# EAGLE library part 8_RES_BUS_1608 (library resistorArrayBus)
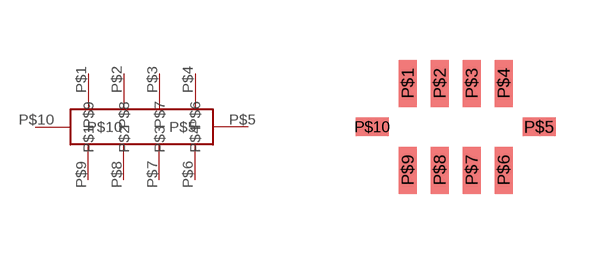
[diagram p0: symbol with the pads of 8_RES_BUS_1608; footprint 8_RES_BUS_1608]

Designator prefix -

## 8_RES_BUS_1608  [8_RES_BUS_1608]
P$1  P$1
P$2  P$2
P$3  P$3
P$4  P$4
P$5  P$5
P$6  P$6
P$7  P$7
P$8  P$8
P$9  P$9
P$10  P$10

## Footprint 8_RES_BUS_1608 (pad centres in mm)
smd 0.45 x 1.175: P$1 -1.2,1.087; P$2 -0.4,1.087; P$3 0.4,1.087; P$4 1.2,1.087; P$6 1.2,-1.087; P$7 0.4,-1.087; P$8 -0.4,-1.087; P$9 -1.2,-1.087
smd 0.825 x 0.45: P$5 2.087,0; P$10 -2.087,0